# Altium footprint library BM03B-GHS-TBT.PcbLib: 1 footprints
Each footprint in its own frame and in the unit in brackets; x right, y up, seen from the top. Pads: shape width x height; smd on the part's side, far side on the other; paste and mask are expansions set on the pad; w line width, h text height; cw(c..) or ccw(c..) is an arc to the next point about the centre after c.
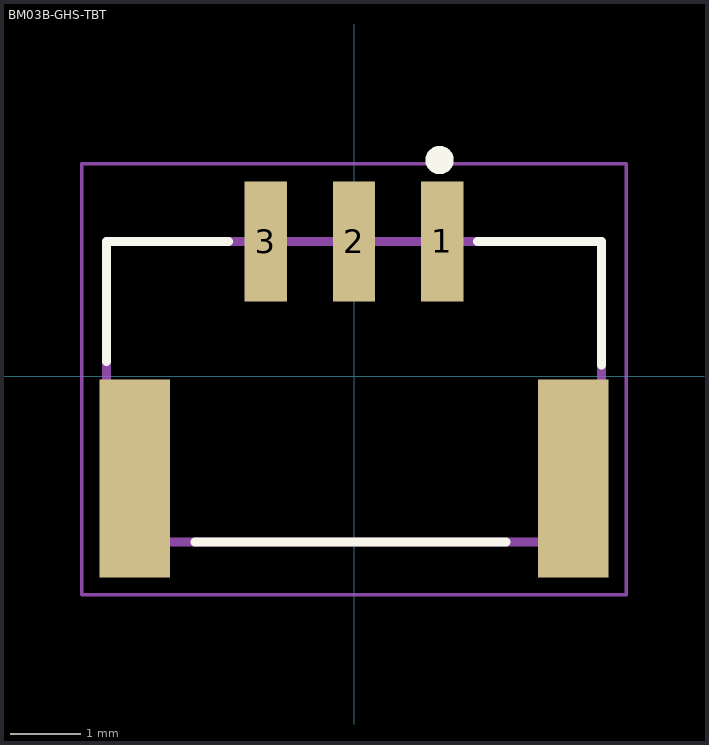
[diagram p0: the footprint, top view; thin cyan lines are the x and y axes]

## BM03B-GHS-TBT [mm]
pads (5):
  rect 0.6x1.7 smd: 1(1.25,1.905) 2(0,1.905) 3(-1.25,1.905)
  rect 1x2.8 smd: ""(-3.1,-1.445) ""(3.1,-1.445)
Top Overlay:
  circle w0.2: c1.21,3.055 r0.1
  lines w0.127: -3.5,0.205 -3.5,1.905 -1.778,1.905 ; -2.25,-2.345 2.15,-2.345 ; 1.75,1.905 3.5,1.905 3.5,0.155
Mechanical 13:
  lines w0.127: -3.5,-2.345 -3.5,1.905 3.5,1.905 3.5,-2.345 -3.5,-2.345
Mechanical 15:
  lines w0.05: -3.85,-3.095 -3.85,3.005 3.85,3.005 3.85,-3.095 -3.85,-3.095
3D body "BM03B-GHS-TBT.STEP": height 4.23, standoff 0.03, extent -3.5,-2.54 3.5,2.41